# EAGLE library part EYFI-MEGA_V2.0 (library eYFi-Mega_board_v1.0)
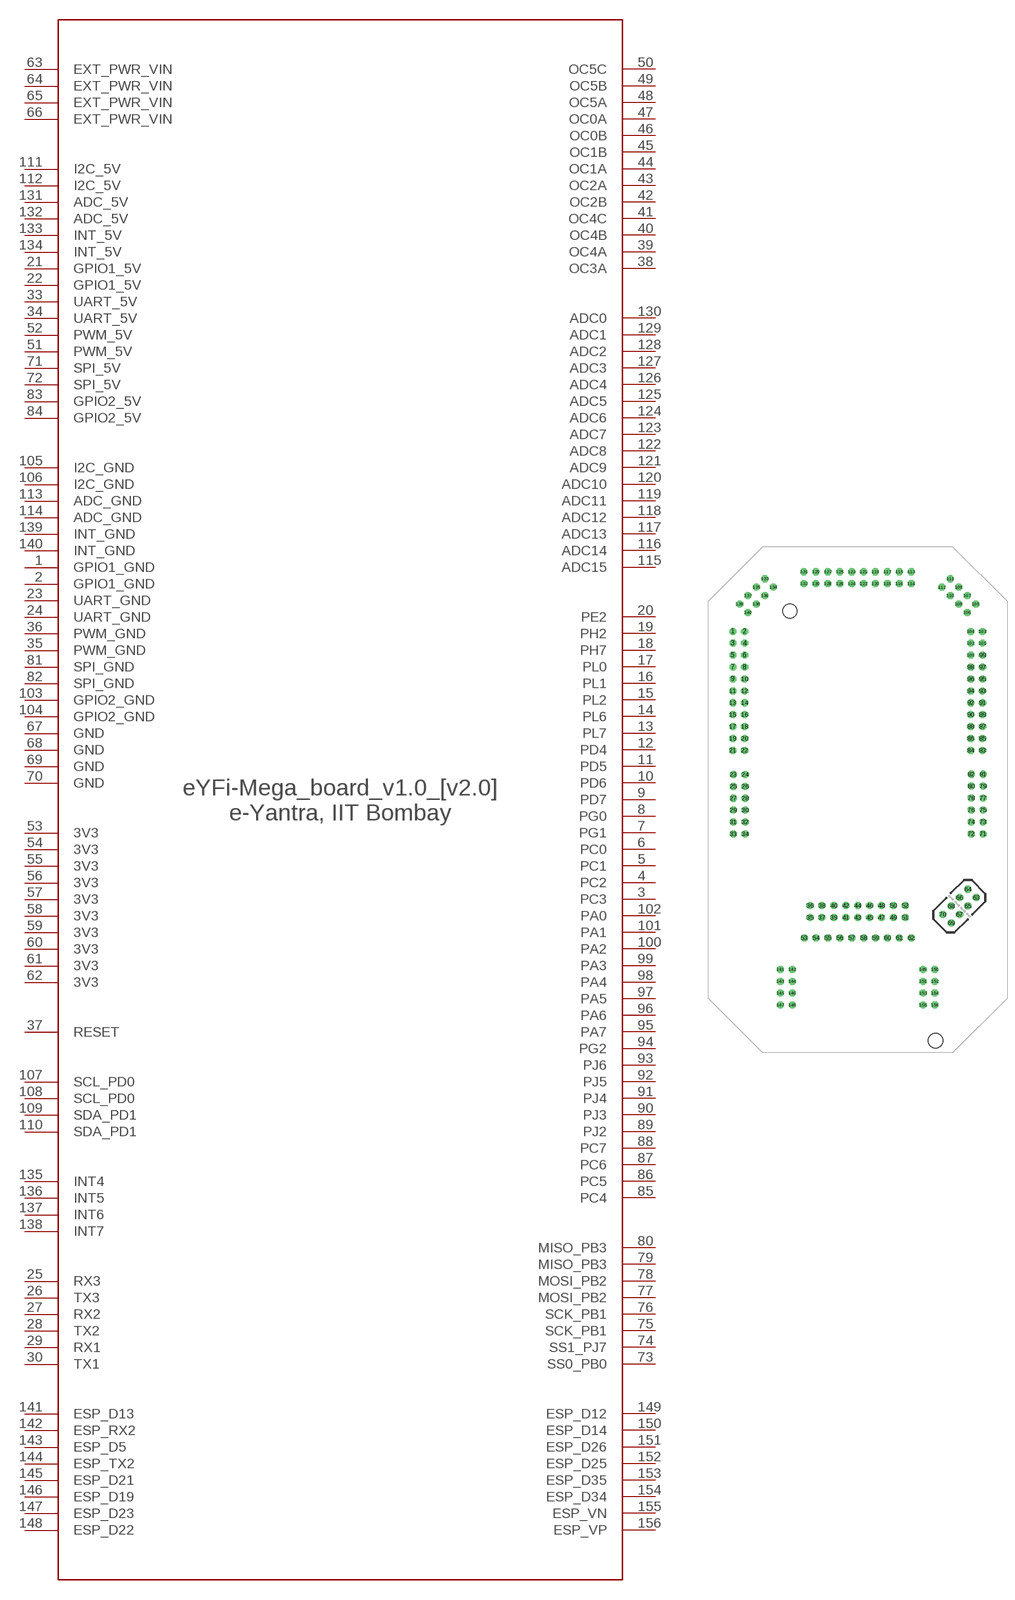
[diagram p0: symbol with the pads of EYFI-MEGA_V2.0; footprint EYFI-MEGA_V2.0]

Designator prefix -

## EYFI-MEGA_V2.0  [EYFI-MEGA_V2.0]
1  GPIO1_GND  pwr
2  GPIO1_GND  pwr
3  PC3
4  PC2
5  PC1
6  PC0
7  PG1
8  PG0
9  PD7
10  PD6
11  PD5
12  PD4
13  PL7
14  PL6
15  PL2
16  PL1
17  PL0
18  PH7
19  PH2
20  PE2
21  GPIO1_5V  pwr
22  GPIO1_5V  pwr
23  UART_GND  pwr
24  UART_GND  pwr
25  RX3
26  TX3
27  RX2
28  TX2
29  RX1
30  TX1
33  UART_5V  pwr
34  UART_5V  pwr
35  PWM_GND  pwr
36  PWM_GND  pwr
37  RESET
38  OC3A
39  OC4A
40  OC4B
41  OC4C
42  OC2B
43  OC2A
44  OC1A
45  OC1B
46  OC0B
47  OC0A
48  OC5A
49  OC5B
50  OC5C
51  PWM_5V  pwr
52  PWM_5V  pwr
53  3V3  pwr
54  3V3  pwr
55  3V3  pwr
56  3V3  pwr
57  3V3  pwr
58  3V3  pwr
59  3V3  pwr
60  3V3  pwr
61  3V3  pwr
62  3V3  pwr
63  EXT_PWR_VIN  pwr
64  EXT_PWR_VIN  pwr
65  EXT_PWR_VIN  pwr
66  EXT_PWR_VIN  pwr
67  GND  pwr
68  GND  pwr
69  GND  pwr
70  GND  pwr
71  SPI_5V  pwr
72  SPI_5V  pwr
73  SS0_PB0
74  SS1_PJ7
75  SCK_PB1
76  SCK_PB1
77  MOSI_PB2
78  MOSI_PB2
79  MISO_PB3
80  MISO_PB3
81  SPI_GND  pwr
82  SPI_GND  pwr
83  GPIO2_5V  pwr
84  GPIO2_5V  pwr
85  PC4
86  PC5
87  PC6
88  PC7
89  PJ2
90  PJ3
91  PJ4
92  PJ5
93  PJ6
94  PG2
95  PA7
96  PA6
97  PA5
98  PA4
99  PA3
100  PA2
101  PA1
102  PA0
103  GPIO2_GND  pwr
104  GPIO2_GND  pwr
105  I2C_GND  pwr
106  I2C_GND  pwr
107  SCL_PD0
108  SCL_PD0
109  SDA_PD1
110  SDA_PD1
111  I2C_5V  pwr
112  I2C_5V  pwr
113  ADC_GND  pwr
114  ADC_GND  pwr
115  ADC15
116  ADC14
117  ADC13
118  ADC12
119  ADC11
120  ADC10
121  ADC9
122  ADC8
123  ADC7
124  ADC6
125  ADC5
126  ADC4
127  ADC3
128  ADC2
129  ADC1
130  ADC0
131  ADC_5V  pwr
132  ADC_5V  pwr
133  INT_5V  pwr
134  INT_5V  pwr
135  INT4
136  INT5
137  INT6
138  INT7
139  INT_GND  pwr
140  INT_GND  pwr
141  ESP_D13
142  ESP_RX2
143  ESP_D5
144  ESP_TX2
145  ESP_D21
146  ESP_D19
147  ESP_D23
148  ESP_D22
149  ESP_D12
150  ESP_D14
151  ESP_D26
152  ESP_D25
153  ESP_D35
154  ESP_D34
155  ESP_VN
156  ESP_VP

## Footprint EYFI-MEGA_V2.0 (pad centres in mm)
drill 1 octagon: 1 -26.66,35.941; 2 -24.12,35.941; 3 -26.66,33.401; 4 -24.12,33.401; 5 -26.66,30.861; 6 -24.12,30.861; 7 -26.66,28.321; 8 -24.12,28.321; 9 -26.66,25.781; 10 -24.12,25.781; 11 -26.66,23.241; 12 -24.12,23.241; 13 -26.66,20.701; 14 -24.12,20.701; 15 -26.66,18.161; 16 -24.12,18.161; 17 -26.66,15.621; 18 -24.12,15.621; 19 -26.66,13.081; 20 -24.12,13.081; 21 -26.66,10.541; 22 -24.12,10.541; 23 -26.543,5.397; 24 -24.003,5.397; 25 -26.543,2.857; 26 -24.003,2.857; 27 -26.543,0.318; 28 -24.003,0.318; 29 -26.543,-2.223; 30 -24.003,-2.223; 31 -26.543,-4.763; 32 -24.003,-4.763; 33 -26.543,-7.303; 34 -24.003,-7.303; 35 -10.147,-25.136; 36 -10.147,-22.596; 37 -7.607,-25.136; 38 -7.607,-22.596; 39 -5.067,-25.136; 40 -5.067,-22.596; 41 -2.527,-25.136; 42 -2.527,-22.596; 43 0.013,-25.136; 44 0.013,-22.596; 45 2.553,-25.136; 46 2.553,-22.596; 47 5.093,-25.136; 48 5.093,-22.596; 49 7.633,-25.136; 50 7.633,-22.596; 51 10.173,-25.136; 52 10.173,-22.596; 53 -11.412,-29.464; 54 -8.872,-29.464; 55 -6.332,-29.464; 56 -3.792,-29.464; 57 -1.252,-29.464; 58 1.288,-29.464; 59 3.828,-29.464; 60 6.368,-29.464; 61 8.908,-29.464; 62 11.448,-29.464; 63 25.344,-20.897; 64 23.548,-19.101; 65 23.548,-22.693; 66 21.752,-20.897; 67 21.752,-24.489; 68 19.956,-22.693; 69 19.956,-26.285; 70 18.16,-24.489; 71 26.779,-7.264; 72 24.239,-7.264; 73 26.779,-4.724; 74 24.239,-4.724; 75 26.779,-2.184; 76 24.239,-2.184; 77 26.779,0.356; 78 24.239,0.356; 79 26.779,2.896; 80 24.239,2.896; 81 26.779,5.436; 82 24.239,5.436; 83 26.67,10.541; 84 24.13,10.541; 85 26.67,13.081; 86 24.13,13.081; 87 26.67,15.621; 88 24.13,15.621; 89 26.67,18.161; 90 24.13,18.161; 91 26.67,20.701; 92 24.13,20.701; 93 26.67,23.241; 94 24.13,23.241; 95 26.67,25.781; 96 24.13,25.781; 97 26.67,28.321; 98 24.13,28.321; 99 26.67,30.861; 100 24.13,30.861; 101 26.67,33.401; 102 24.13,33.401; 103 26.67,35.941; 104 24.13,35.941; 105 25.188,41.771; 106 23.392,39.975; 107 23.392,43.567; 108 21.596,41.771; 109 21.596,45.363; 110 19.8,43.567; 111 19.8,47.16; 112 18.004,45.363; 113 11.43,48.641; 114 11.43,46.101; 115 8.89,48.641; 116 8.89,46.101; 117 6.35,48.641; 118 6.35,46.101; 119 3.81,48.641; 120 3.81,46.101; 121 1.27,48.641; 122 1.27,46.101; 123 -1.27,48.641; 124 -1.27,46.101; 125 -3.81,48.641; 126 -3.81,46.101; 127 -6.35,48.641; 128 -6.35,46.101; 129 -8.89,48.641; 130 -8.89,46.101; 131 -11.43,48.641; 132 -11.43,46.101; 133 -19.796,47.158; 134 -18,45.362; 135 -21.593,45.362; 136 -19.796,43.566; 137 -23.389,43.566; 138 -21.593,41.77; 139 -25.185,41.77; 140 -23.389,39.974; 141 -16.51,-36.195; 142 -13.97,-36.195; 143 -16.51,-38.735; 144 -13.97,-38.735; 145 -16.51,-41.275; 146 -13.97,-41.275; 147 -16.51,-43.815; 148 -13.97,-43.815; 149 13.97,-36.195; 150 16.51,-36.195; 151 13.97,-38.735; 152 16.51,-38.735; 153 13.97,-41.275; 154 16.51,-41.275; 155 13.97,-43.815; 156 16.51,-43.815
hole 3.048 at -14.478,40.259
hole 3.048 at 16.637,-51.435